# Altium footprint library Bosh FootPrints.PcbLib: 1 footprints
Each footprint in its own frame and in the unit in brackets; x right, y up, seen from the top. Pads: shape width x height; smd on the part's side, far side on the other; paste and mask are expansions set on the pad; w line width, h text height; cw(c..) or ccw(c..) is an arc to the next point about the centre after c.
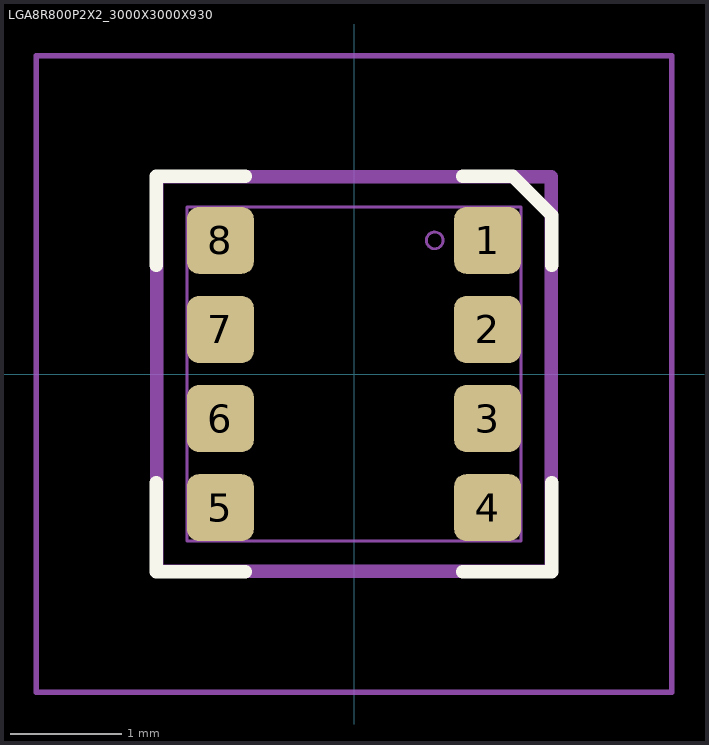
[diagram p0: the footprint, top view; thin cyan lines are the x and y axes]

## LGA8R800P2X2_3000X3000X930 [mm] "IPC-7351C"
pads (8):
  rrect35% 0.6x0.6 smd: 1(1.2,1.2) 3(1.2,-0.4) 4(1.2,-1.2) 5(-1.2,-1.2) 6(-1.2,-0.4) 7(-1.2,0.4) 8(-1.2,1.2)
  rrect35% 0.6x0.6 smd mask+0.102: 2(1.2,0.4)
Top Overlay:
  lines w0.12: -1.775,-0.975 -1.775,-1.775 -0.975,-1.775 ; -1.775,0.975 -1.775,1.775 -0.975,1.775 ; 0.975,-1.775 1.775,-1.775 1.775,-0.975 ; 0.975,1.775 1.425,1.775 1.775,1.425 1.775,0.975
Mechanical 11:
  lines w0.12: -1.77,-1.773 1.77,-1.773 1.77,1.773 -1.77,1.773 -1.77,-1.773
Mechanical 12:
  circle w0.025: c0.725,1.2 r0.075
  lines w0.025: -1.5,-1.5 -1.5,1.5 1.5,1.5 1.5,-1.5 -1.5,-1.5 ; -1.4,-1.4 -1,-1.4 -1,-1 -1.4,-1 -1.4,-1.4 ; -1.4,-0.6 -1.4,-0.2 -1,-0.2 -1,-0.6 -1.4,-0.6 ; -1.4,0.2 -1.4,0.6 -1,0.6 -1,0.2 -1.4,0.2 ; -1.4,1 -1,1 -1,1.4 -1.4,1.4 -1.4,1 ; 1,-1.4 1,-1 1.4,-1 1.4,-1.4 1,-1.4 ; 1,-0.6 1.4,-0.6 1.4,-0.2 1,-0.2 1,-0.6 ; 1,0.2 1.4,0.2 1.4,0.6 1,0.6 1,0.2 ; 1,1 1,1.4 1.4,1.4 1.4,1 1,1
Mechanical 15:
  lines w0.05: -2.855,-2.858 2.855,-2.858 2.855,2.858 -2.855,2.858 -2.855,-2.858
Mechanical 16:
  text "Designator" at 0,0 h1.2
3D body "pp.step": height 0.95, standoff 0, extent -1.498,-1.501 1.502,1.499